# Altium schematic symbol library SCH - POWER - SWITCHMODE - TI TPS61045DRB.SchLib: 1 symbol
Pins are listed as number, name and electrical type; pins without a type are passive.

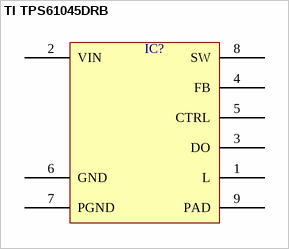
[diagram p0: symbol TI TPS61045DRB]

## TI TPS61045DRB
designator IC?  (value not drawn)
pins: 1 L, 2 VIN, 3 DO, 4 FB, 5 CTRL, 6 GND, 7 PGND, 8 SW, 9 PAD